# Altium footprint library SOIC254P1210X390-4N.PcbLib: 1 footprints
Each footprint in its own frame and in the unit in brackets; x right, y up, seen from the top. Pads: shape width x height; smd on the part's side, far side on the other; paste and mask are expansions set on the pad; w line width, h text height; cw(c..) or ccw(c..) is an arc to the next point about the centre after c.
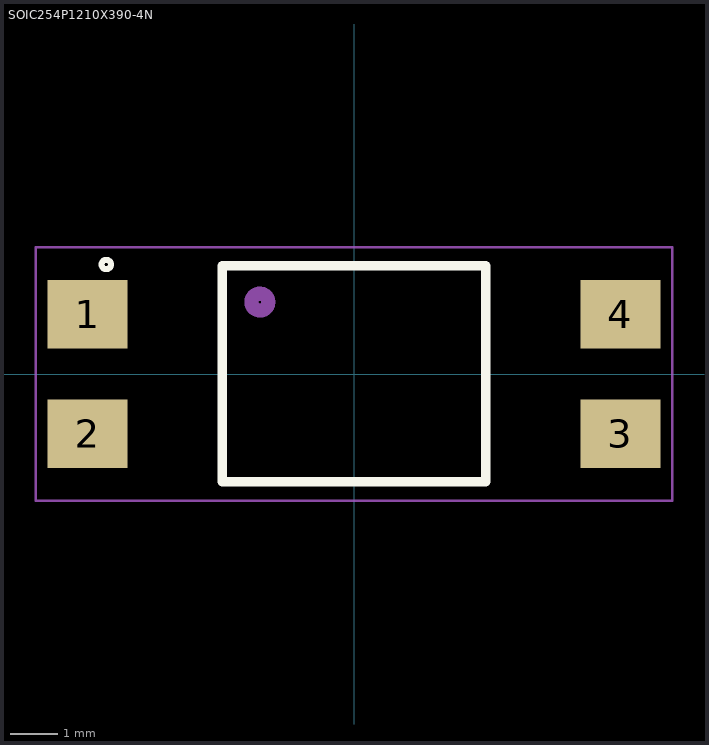
[diagram p0: the footprint, top view; thin cyan lines are the x and y axes]

## SOIC254P1210X390-4N [mm]
pads (4):
  rect 1.7x1.45 smd: 1(-5.67,1.27) 2(-5.67,-1.27) 3(5.67,-1.27) 4(5.67,1.27)
Top Overlay:
  circle w0.127: c-5.273,2.33 r0.1
  lines w0.2: -2.8,2.29 -2.8,-2.29 2.8,-2.29 2.8,2.29 ; -2.8,2.3 2.8,2.3
Mechanical 13:
  circle w0.3: c-2.003,1.53 r0.18
Mechanical 15:
  lines w0.05: -6.77,-2.7 -6.77,2.7 6.77,2.7 6.77,-2.7 -6.77,-2.7